# EAGLE library part MC1489 (library ads)
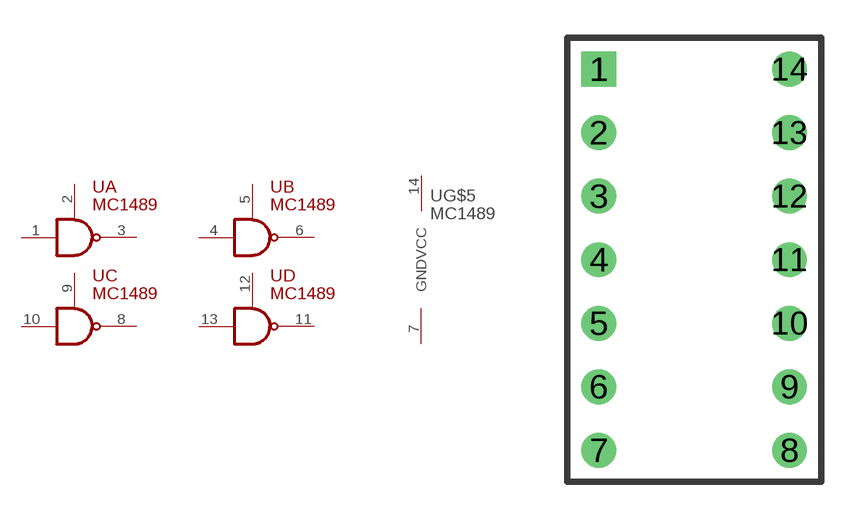
[diagram p1: symbol with the pads of MC1489; footprint MC1489]

Designator prefix U; gates A=MC1489 B=MC1489 C=MC1489 D=MC1489 G$5=POWER2

## MC1489  [MC1489]
1  A:IN  in
2  A:REMOTE  in
3  A:OUT  out
4  B:IN  in
5  B:REMOTE  in
6  B:OUT  out
7  G$5:GND  pwr
8  C:OUT  out
9  C:REMOTE  in
10  C:IN  in
11  D:OUT  out
12  D:REMOTE  in
13  D:IN  in
14  G$5:VCC  pwr

## Footprint MC1489 (pad centres in mm)
drill 0.813 pad 1.397 square: 1 0,0
drill 0.813 pad 1.397 round: 2 0,-2.54; 3 0,-5.08; 4 0,-7.62; 5 0,-10.16; 6 0,-12.7; 7 0,-15.24; 8 7.62,-15.24; 9 7.62,-12.7; 10 7.62,-10.16; 11 7.62,-7.62; 12 7.62,-5.08; 13 7.62,-2.54; 14 7.62,0